# Altium schematic symbol library Interface.SchLib: 25 symbols
Pins are listed as number, name and electrical type; pins without a type are passive.

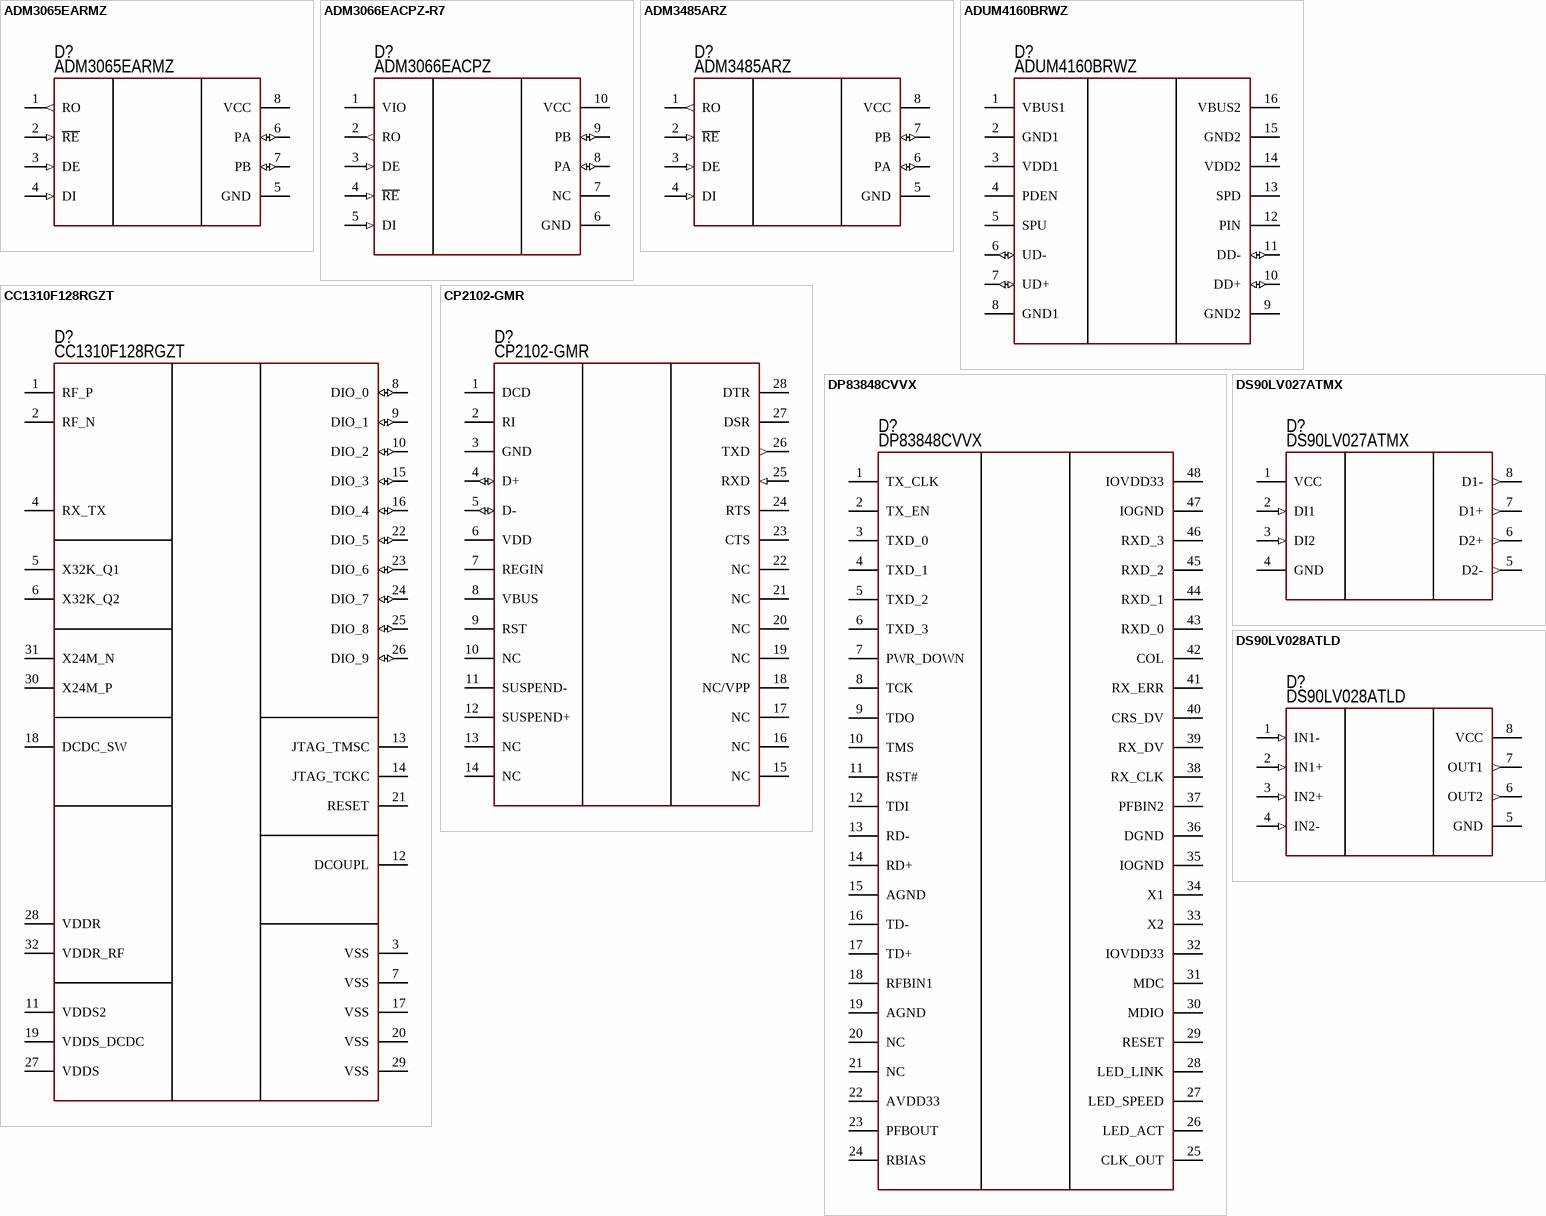
[diagram p0: symbols ADM3065EARMZ to DS90LV028ATLD]

## ADM3065EARMZ
designator D?
RS485; Manufacturer: Analog Devices Inc.; Model: ADM3065EARMZ; HelpURL: https://www.digikey.com/product-detail/en/analog-devices-inc/ADM3065EARMZ/ADM3065EARMZ-ND/7200816; ComponentKind: 8-MSOP
footprint 8-MSOP (NO PAD)
pins: 1 RO (out), 2 ~{RE} (in), 3 DE (in), 4 DI (in), 5 GND (power), 6 PA (io), 7 PB (io), 8 VCC (power)

## ADM3066EACPZ-R7
designator D?, comment ADM3066EACPZ
RS485; Manufacturer: Analog Devices Inc.; Model: ADM3066EACPZ-R7; HelpURL: https://www.digikey.com/products/en?keywords=ADM3066EACPZ-R7; ComponentKind: 10-LFCSP
footprint 10-LFCSP (3x3 mm) (QFN, 10-Leads, Body 3,00x3,00mm, Pitch 0,50mm, Thermal Pad 3,18x1,58mm, IPC Medium Density)
pins: 1 VIO (power), 2 RO (out), 3 DE (in), 4 ~{RE} (in), 5 DI (in), 6 GND (power), 7 NC, 8 PA (io), 9 PB (io), 10 VCC (power)

## ADM3485ARZ
designator D?
RS485; Manufacturer: Analog Devices Inc.; Model: ADM3485ARZ-REEL7; HelpURL: https://www.digikey.com/product-detail/en/analog-devices-inc/ADM3485ARZ-REEL7/ADM3485ARZ-REEL7CT-ND/3878705; ComponentKind: 8-SOIC
footprint 8-SOIC
pins: 1 RO (out), 2 ~{RE} (in), 3 DE (in), 4 DI (in), 5 GND (power), 6 PA (io), 7 PB (io), 8 VCC (power)

## ADUM4160BRWZ
designator D?
USB isolator; Manufacturer: Analog Devices Inc.; Model: ADUM4160BRWZ; ComponentKind: 16-SOIC; HelpURL: https://www.digikey.com/product-detail/en/analog-devices-inc/ADUM4160BRWZ/ADUM4160BRWZ-ND/2108218
footprint 16-SOIC (W)
pins: 1 VBUS1, 2 GND1, 3 VDD1, 4 PDEN, 5 SPU, 6 UD- (io), 7 UD+ (io), 8 GND1, 9 GND2, 10 DD+ (io), 11 DD- (io), 12 PIN, 13 SPD, 14 VDD2, 15 GND2, 16 VBUS2

## CC1310F128RGZT
designator D?
868MHz; Manufacturer: Texas Instruments; Model: CC1310F128RGZT; HelpURL: https://www.digikey.com/product-detail/en/texas-instruments/CC1310F128RGZT/296-42989-1-ND/5641860; ComponentKind: 32-VQFN
footprint 32-VQFN (5x5 mm) (QFN, 32-Leads, Body 5x5mm, Pitch 0.5mm, Thermal Pad 3.45x3.45mm, TI Recommended)
pins: 1 RF_P, 2 RF_N, 3 VSS, 4 RX_TX, 5 X32K_Q1, 6 X32K_Q2, 7 VSS, 8 DIO_0 (io), 9 DIO_1 (io), 10 DIO_2 (io), 11 VDDS2, 12 DCOUPL, 13 JTAG_TMSC, 14 JTAG_TCKC, 15 DIO_3 (io), 16 DIO_4 (io), 17 VSS, 18 DCDC_SW, 19 VDDS_DCDC, 20 VSS, 21 RESET, 22 DIO_5 (io), 23 DIO_6 (io), 24 DIO_7 (io), 25 DIO_8 (io), 26 DIO_9 (io), 27 VDDS, 28 VDDR, 29 VSS, 30 X24M_P, 31 X24M_N, 32 VDDR_RF

## CP2102-GMR
designator D?
USB-UART; Manufacturer: Silicon Labs; Model: CP2102-GMR; HelpURL: https://www.digikey.com/product-detail/en/silicon-labs/CP2102-GMR/336-1160-1-ND/3672615; ComponentKind: 28-QFN
footprint 28-QFN (5x5 mm), 0.5 mm (PQFN, 28-Leads, Body 5,00x5,00mm, Pitch 0,50mm, Thermal Pad 3,15x3,15mm, IPC Medium Density)
pins: 1 DCD, 2 RI, 3 GND, 4 D+ (io), 5 D- (io), 6 VDD, 7 REGIN, 8 VBUS, 9 RST, 10 NC, 11 SUSPEND-, 12 SUSPEND+, 13 NC, 14 NC, 15 NC, 16 NC, 17 NC, 18 NC/VPP, 19 NC, 20 NC, 21 NC, 22 NC, 23 CTS, 24 RTS, 25 RXD (in), 26 TXD (out), 27 DSR, 28 DTR

## DP83848CVVX
designator D?
PHY Ethernet; Manufacturer: Texas Instruments; Model: DP83848CVVX/NOPB; HelpURL: https://www.digikey.com/product-detail/en/texas-instruments/DP83848CVVX-NOPB/DP83848CVVX-NOPBCT-ND/3440156; ComponentKind: 48-LQFP
footprint 48-LQFP (QFP, 48-Leads, Body 7x7mm, Pitch 0.5mm, IPC Medium Density)
pins: 1 TX_CLK, 2 TX_EN, 3 TXD_0, 4 TXD_1, 5 TXD_2, 6 TXD_3, 7 PWR_DOWN, 8 TCK, 9 TDO, 10 TMS, 11 RST#, 12 TDI, 13 RD-, 14 RD+, 15 AGND, 16 TD-, 17 TD+, 18 RFBIN1, 19 AGND, 20 NC, 21 NC, 22 AVDD33, 23 PFBOUT, 24 RBIAS, 25 CLK_OUT, 26 LED_ACT, 27 LED_SPEED, 28 LED_LINK, 29 RESET, 30 MDIO, 31 MDC, 32 IOVDD33, 33 X2, 34 X1, 35 IOGND, 36 DGND, 37 PFBIN2, 38 RX_CLK, 39 RX_DV, 40 CRS_DV, 41 RX_ERR, 42 COL, 43 RXD_0, 44 RXD_1, 45 RXD_2, 46 RXD_3, 47 IOGND, 48 IOVDD33

## DS90LV027ATMX
designator D?
LVDS transiver; Manufacturer: Texas Instruments; Model: DS90LV027ATMX; HelpURL: https://www.digikey.com/product-detail/en/texas-instruments/DS90LV027ATMX-NOPB/296-35388-1-ND/3739092; ComponentKind: 8-SOIC
footprint 8-SOIC
pins: 1 VCC, 2 DI1 (in), 3 DI2 (in), 4 GND, 5 D2- (out), 6 D2+ (out), 7 D1+ (out), 8 D1- (out)

## DS90LV028ATLD
designator D?
LVDS receiver; Manufacturer: Texas Instruments; Model: DS90LV028ATLD/NOPB; HelpURL: https://www.digikey.com/product-detail/en/texas-instruments/DS90LV028ATLD-NOPB/DS90LV028ATLD-NOPBCT-ND/562328; ComponentKind: 8-WSON
footprint 8-WSON (4x4 mm)
pins: 1 IN1- (in), 2 IN1+ (in), 3 IN2+ (in), 4 IN2- (in), 5 GND (power), 6 OUT2 (out), 7 OUT1 (out), 8 VCC (power)

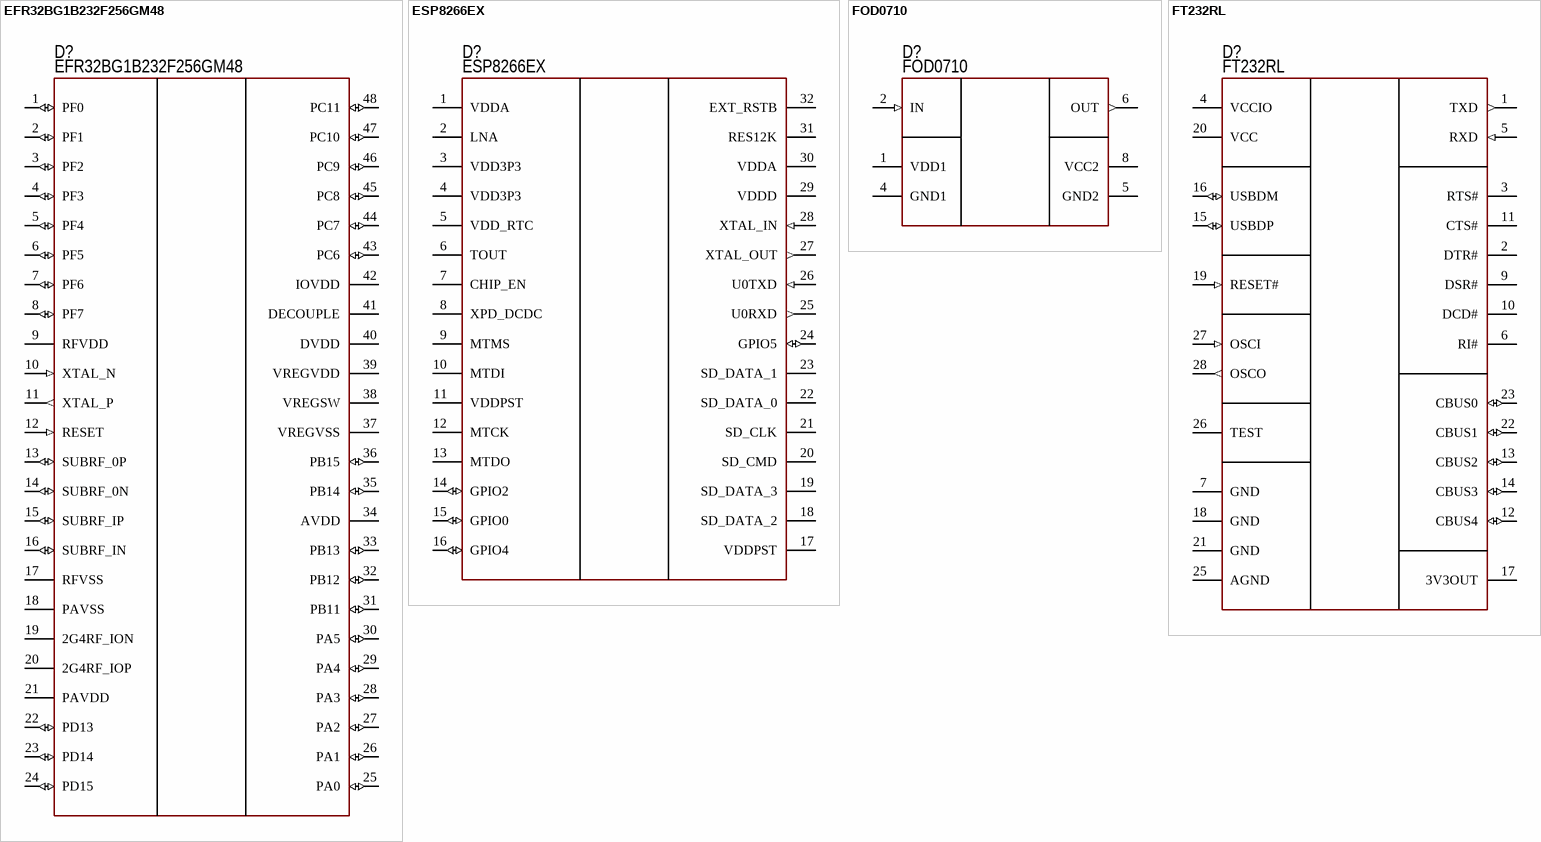
[diagram p1: symbols EFR32BG1B232F256GM48 to FT232RL]

## EFR32BG1B232F256GM48
designator D?
BLE+868MHz; Manufacturer: Silicon Labs; Model: EFR32BG1B232F256GM48-C0; HelpURL: https://www.digikey.com/product-detail/en/silicon-labs/EFR32BG1B232F256GM48-C0/336-3745-ND/6123008; ComponentKind: 48-QFN
footprint 48-QFN (7x7)
pins: 1 PF0 (io), 2 PF1 (io), 3 PF2 (io), 4 PF3 (io), 5 PF4 (io), 6 PF5 (io), 7 PF6 (io), 8 PF7 (io), 9 RFVDD, 10 XTAL_N (in), 11 XTAL_P (out), 12 RESET (in), 13 SUBRF_0P (io), 14 SUBRF_0N (io), 15 SUBRF_IP (io), 16 SUBRF_IN (io), 17 RFVSS, 18 PAVSS, 19 2G4RF_ION, 20 2G4RF_IOP, 21 PAVDD, 22 PD13 (io), 23 PD14 (io), 24 PD15 (io), 25 PA0 (io), 26 PA1 (io), 27 PA2 (io), 28 PA3 (io), 29 PA4 (io), 30 PA5 (io), 31 PB11 (io), 32 PB12 (io), 33 PB13 (io), 34 AVDD, 35 PB14 (io), 36 PB15 (io), 37 VREGVSS, 38 VREGSW, 39 VREGVDD, 40 DVDD, 41 DECOUPLE, 42 IOVDD, 43 PC6 (io), 44 PC7 (io), 45 PC8 (io), 46 PC9 (io), 47 PC10 (io), 48 PC11 (io)

## ESP8266EX
designator D?
Wi-Fi; Manufacturer: Espressif Systems; Model: ESP8266EX; ComponentKind: 32-VQFN; HelpURL: http://espressif.com/sites/default/files/documentation/0a-esp8266ex_datasheet_en.pdf
footprint 32-VQFN (5x5 mm) (QFN, 32-Leads, Body 5x5mm, Pitch 0.5mm, Thermal Pad 3.45x3.45mm, TI Recommended)
pins: 1 VDDA, 2 LNA, 3 VDD3P3, 4 VDD3P3, 5 VDD_RTC, 6 TOUT, 7 CHIP_EN, 8 XPD_DCDC, 9 MTMS, 10 MTDI, 11 VDDPST, 12 MTCK, 13 MTDO, 14 GPIO2 (io), 15 GPIO0 (io), 16 GPIO4 (io), 17 VDDPST, 18 SD_DATA_2, 19 SD_DATA_3, 20 SD_CMD, 21 SD_CLK, 22 SD_DATA_0, 23 SD_DATA_1, 24 GPIO5 (io), 25 U0RXD (out), 26 U0TXD (in), 27 XTAL_OUT (out), 28 XTAL_IN (in), 29 VDDD, 30 VDDA, 31 RES12K, 32 EXT_RSTB

## FOD0710
designator D?
Isolator; Manufacturer: ON Semiconductor; Model: FOD0710; HelpURL: https://ru.mouser.com/ProductDetail/ON-Semiconductor-Fairchild/FOD0710?qs=sGAEpiMZZMtd3yBnp8bAgDLgcgrrbeJwH6KJ8Lq%252bCLE%3d; ComponentKind: 8-SOIC
footprint 8-SOIC
pins: 1 VDD1 (power), 2 IN (in), 4 GND1 (power), 5 GND2 (power), 6 OUT (out), 8 VCC2 (power)

## FT232RL
designator D?
USB-UART; Manufacturer: FTDI, Future Technology Devices International Ltd; Model: FT232RL-REEL; HelpURL: https://www.digikey.com/product-detail/en/ftdi-future-technology-devices-international-ltd/FT232RL-REEL/768-1007-1-ND/1836402; ComponentKind: SSOP-28
footprint 28-SSOP
pins: 1 TXD (out), 2 DTR#, 3 RTS#, 4 VCCIO, 5 RXD (in), 6 RI#, 7 GND, 9 DSR#, 10 DCD#, 11 CTS#, 12 CBUS4 (io), 13 CBUS2 (io), 14 CBUS3 (io), 15 USBDP (io), 16 USBDM (io), 17 3V3OUT, 18 GND, 19 RESET# (in), 20 VCC, 21 GND, 22 CBUS1 (io), 23 CBUS0 (io), 25 AGND, 26 TEST, 27 OSCI (in), 28 OSCO (out)

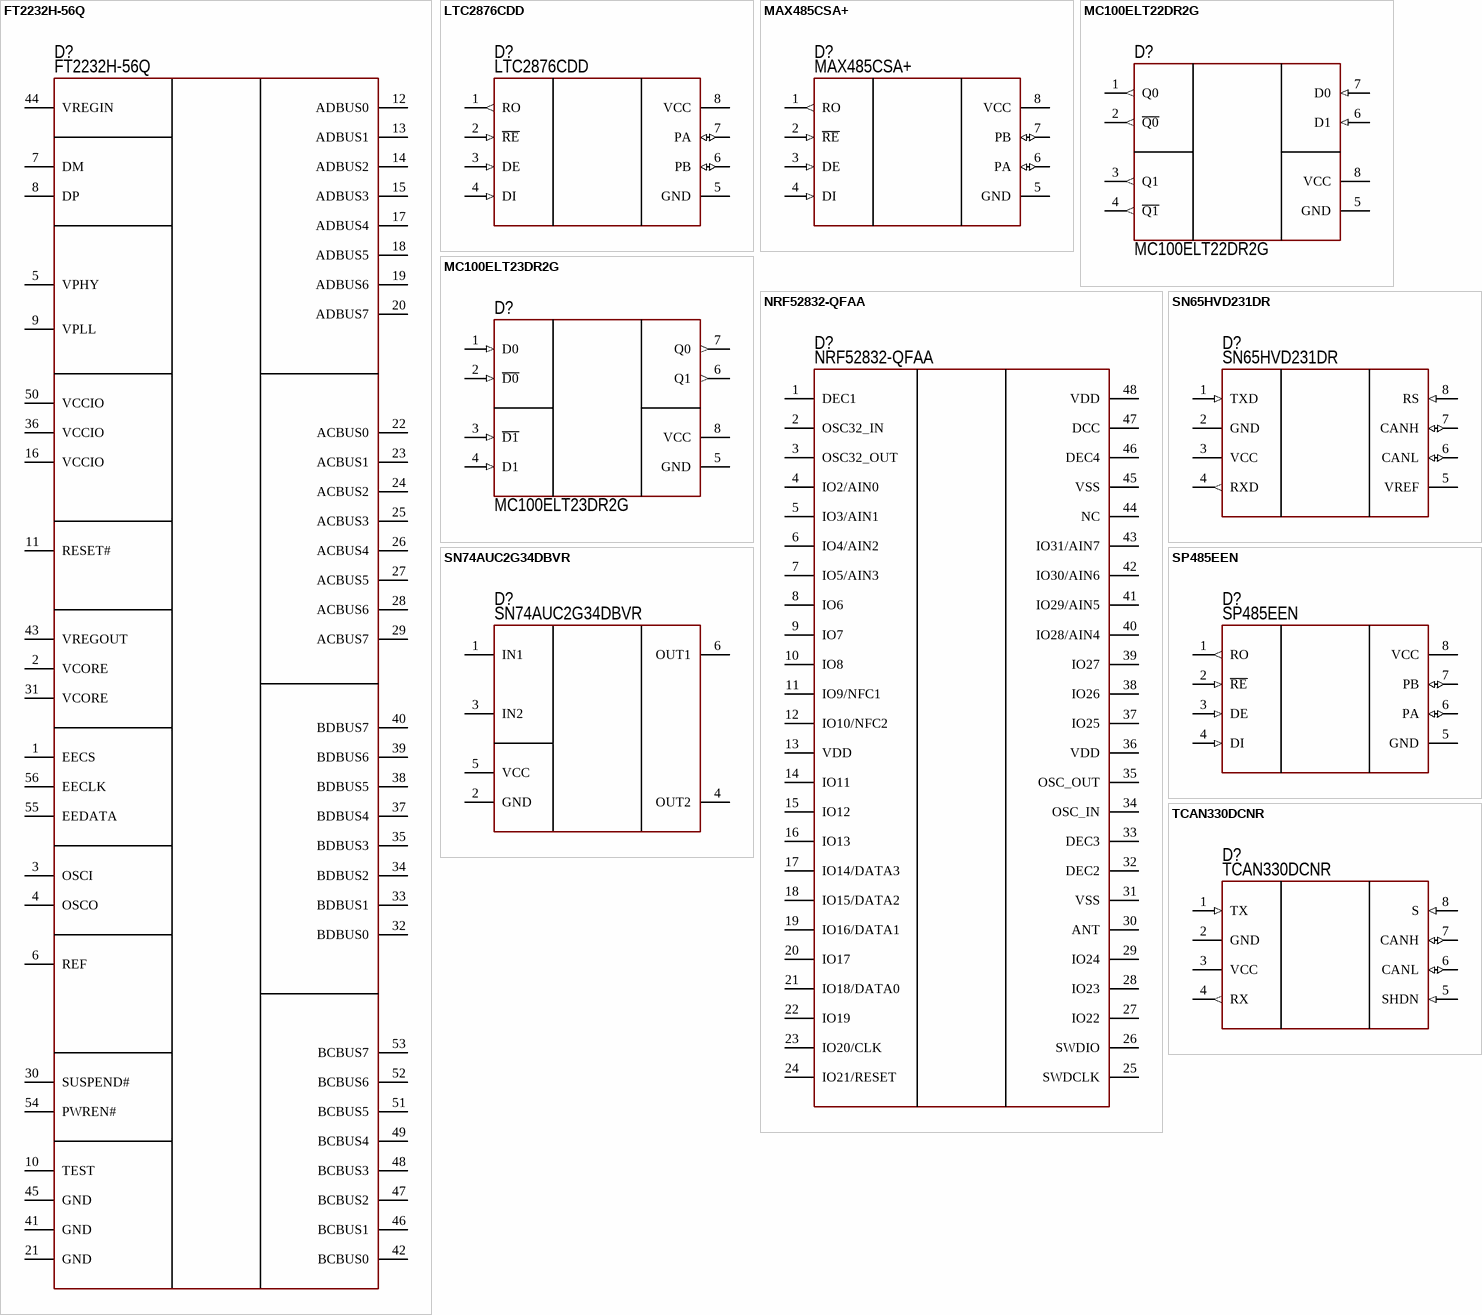
[diagram p2: symbols FT2232H-56Q to TCAN330DCNR]

## FT2232H-56Q
designator D?
USB-UART; Manufacturer: FTDI, Future Technology Devices International Ltd; Model: FT2232H-56Q-TRAY; HelpURL: https://www.digikey.com/product-detail/en/ftdi-future-technology-devices-international-ltd/FT2232H-56Q-TRAY/768-1276-ND/5994773; ComponentKind: 56-VQFN
footprint 56-VQFN (8x8)
pins: 1 EECS, 2 VCORE, 3 OSCI, 4 OSCO, 5 VPHY, 6 REF, 7 DM, 8 DP, 9 VPLL, 10 TEST, 11 RESET#, 12 ADBUS0, 13 ADBUS1, 14 ADBUS2, 15 ADBUS3, 16 VCCIO, 17 ADBUS4, 18 ADBUS5, 19 ADBUS6, 20 ADBUS7, 21 GND, 22 ACBUS0, 23 ACBUS1, 24 ACBUS2, 25 ACBUS3, 26 ACBUS4, 27 ACBUS5, 28 ACBUS6, 29 ACBUS7, 30 SUSPEND#, 31 VCORE, 32 BDBUS0, 33 BDBUS1, 34 BDBUS2, 35 BDBUS3, 36 VCCIO, 37 BDBUS4, 38 BDBUS5, 39 BDBUS6, 40 BDBUS7, 41 GND, 42 BCBUS0, 43 VREGOUT, 44 VREGIN, 45 GND, 46 BCBUS1, 47 BCBUS2, 48 BCBUS3, 49 BCBUS4, 50 VCCIO, 51 BCBUS5, 52 BCBUS6, 53 BCBUS7, 54 PWREN#, 55 EEDATA, 56 EECLK

## LTC2876CDD
designator D?
RS485; Manufacturer: Linear Technology; Model: LTC2876CDD#PBF; HelpURL: https://www.digikey.com/product-detail/en/linear-technology/LTC2876CDD-PBF/LTC2876CDD-PBF-ND/5970069; ComponentKind: 8-DFN
footprint 8-DFN (3x3 mm)
pins: 1 RO (out), 2 ~{RE} (in), 3 DE (in), 4 DI (in), 5 GND (power), 6 PB (io), 7 PA (io), 8 VCC (power)

## MAX485CSA+
designator D?
RS485; Manufacturer: Maxim Integrated; Model: MAX485CSA+; HelpURL: https://www.digikey.com/product-detail/en/maxim-integrated/MAX485CSA/MAX485CSA-ND/948027; ComponentKind: 8-SOIC
footprint 8-SOIC
pins: 1 RO (out), 2 ~{RE} (in), 3 DE (in), 4 DI (in), 5 GND (power), 6 PA (io), 7 PB (io), 8 VCC (power)

## MC100ELT22DR2G
designator D?
TTL-PECL; Manufacturer: ON Semiconductor; Model: MC100ELT22DR2G; HelpURL: https://ru.mouser.com/ProductDetail/ON-Semiconductor/MC100ELT22DR2G?qs=sGAEpiMZZMsty6Jaj0%252bBBvnsgRTe5FdSbfMnTcA2FrE%3d; ComponentKind: 8-SOIC
footprint 8-SOIC
pins: 1 Q0 (out), 2 ~{Q0} (out), 3 Q1 (out), 4 ~{Q1} (out), 5 GND (power), 6 D1 (in), 7 D0 (in), 8 VCC (power)

## MC100ELT23DR2G
designator D?
PECL-TTL; Manufacturer: ON Semiconductor; Model: MC100ELT23DR2G; HelpURL: https://ru.mouser.com/ProductDetail/ON-Semiconductor/MC100ELT23DR2G?qs=sGAEpiMZZMsty6Jaj0%252bBBvnsgRTe5FdSSx3BEMWB%2fxc%3d; ComponentKind: 8-SOIC
footprint 8-SOIC
pins: 1 D0 (in), 2 ~{D0} (in), 3 ~{D1} (in), 4 D1 (in), 5 GND (power), 6 Q1 (out), 7 Q0 (out), 8 VCC (power)

## NRF52832-QFAA
designator D?
Bluetooth v4.1; Manufacturer: Nordic Semiconductor ASA; Model: NRF52832-QFAA-R; HelpURL: https://www.digikey.com/product-detail/en/nordic-semiconductor-asa/NRF52832-QFAA-R/1490-1052-1-ND/5428660; ComponentKind: 48-QFN
footprint 48-QFN (6x6) (QFN, 48-Leads, Body 6,00x6,00mm, Pitch 0,40mm, Thermal Pad 4,50x4,50mm, IPC Medium Density)
pins: 1 DEC1, 2 OSC32_IN, 3 OSC32_OUT, 4 IO2/AIN0, 5 IO3/AIN1, 6 IO4/AIN2, 7 IO5/AIN3, 8 IO6, 9 IO7, 10 IO8, 11 IO9/NFC1, 12 IO10/NFC2, 13 VDD, 14 IO11, 15 IO12, 16 IO13, 17 IO14/DATA3, 18 IO15/DATA2, 19 IO16/DATA1, 20 IO17, 21 IO18/DATA0, 22 IO19, 23 IO20/CLK, 24 IO21/RESET, 25 SWDCLK, 26 SWDIO, 27 IO22, 28 IO23, 29 IO24, 30 ANT, 31 VSS, 32 DEC2, 33 DEC3, 34 OSC_IN, 35 OSC_OUT, 36 VDD, 37 IO25, 38 IO26, 39 IO27, 40 IO28/AIN4, 41 IO29/AIN5, 42 IO30/AIN6, 43 IO31/AIN7, 44 NC, 45 VSS, 46 DEC4, 47 DCC, 48 VDD

## SN65HVD231DR
designator D?
CAN; Manufacturer: Texas Instruments; Model: SN65HVD231DR; HelpURL: https://www.digikey.com/product-detail/en/texas-instruments/SN65HVD231DR/296-26343-1-ND/2254977; ComponentKind: 8-SOIC
footprint 8-SOIC
pins: 1 TXD (in), 2 GND, 3 VCC, 4 RXD (out), 5 VREF, 6 CANL (io), 7 CANH (io), 8 RS (in)

## SN74AUC2G34DBVR
designator D?
Buffer; Manufacturer: Texas Instruments; Model: SN74AUC2G34DBVR; HelpURL: https://www.digikey.com/product-detail/en/texas-instruments/SN74AUC2G34DBVR/296-17231-1-ND/670072; ComponentKind: SOT23-6
footprint SOT23-6 (SOT23, 6-Leads, Body 2,90x2,45mm, Pitch 0,95mm, IPC Medium Density)
pins: 1 IN1 (power), 2 GND (power), 3 IN2 (power), 4 OUT2 (power), 5 VCC (power), 6 OUT1 (power)

## SP485EEN
designator D?
RS485; Manufacturer: Exar Corporation; Model: SP485EEN-L/TR; HelpURL: https://www.digikey.com/product-detail/en/exar-corporation/SP485EEN-L-TR/1016-1827-1-ND/3586544; ComponentKind: 8-SOIC
footprint 8-SOIC
pins: 1 RO (out), 2 ~{RE} (in), 3 DE (in), 4 DI (in), 5 GND (power), 6 PA (io), 7 PB (io), 8 VCC (power)

## TCAN330DCNR
designator D?
CAN; Manufacturer: Texas Instruments; Model: TCAN330DCNR; HelpURL: https://www.digikey.com/product-detail/en/texas-instruments/TCAN330DCNR/296-46215-1-ND/7033390; ComponentKind: SOT23-8
footprint SOT23-8 (8-Lead Small Outline Transistor Package [SOT-23])
pins: 1 TX (in), 2 GND (power), 3 VCC (power), 4 RX (out), 5 SHDN (in), 6 CANL (io), 7 CANH (io), 8 S (in)

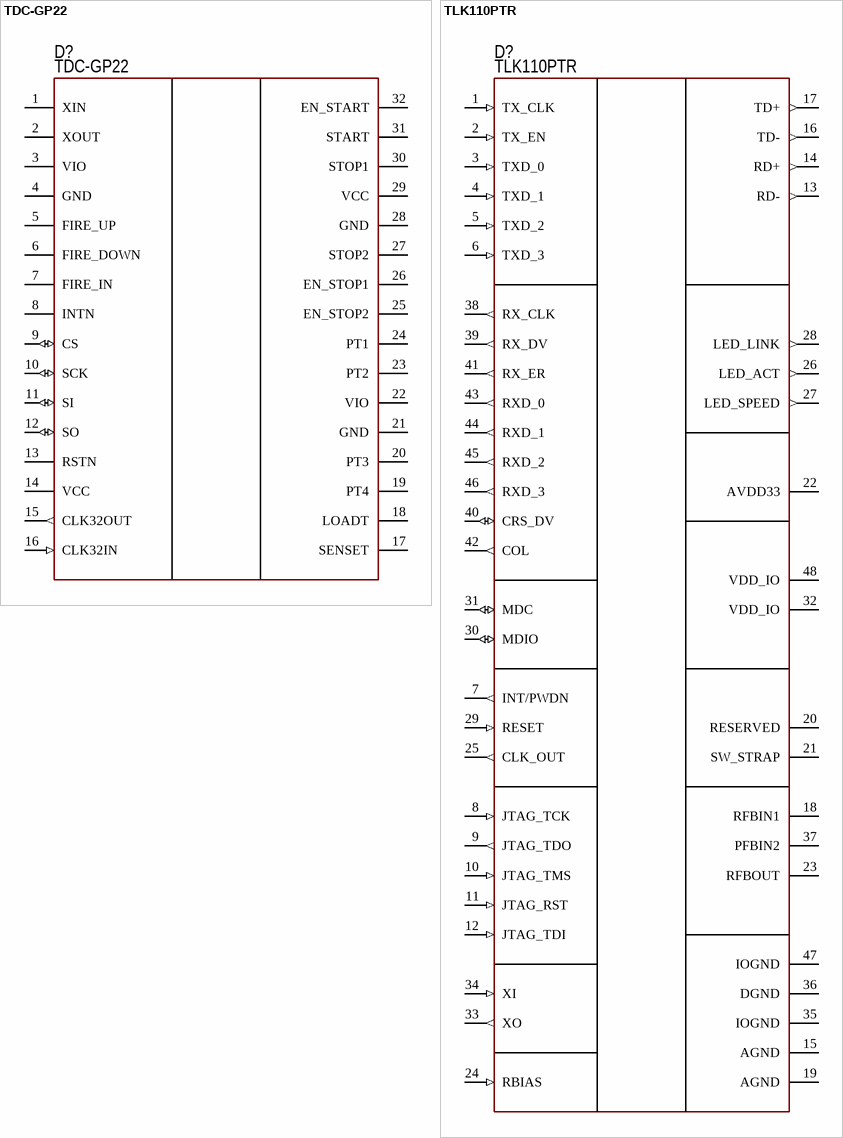
[diagram p3: symbols TDC-GP22 to TLK110PTR]

## TDC-GP22
designator D?
Ultrasonic; Manufacturer: AMS; Model: TDC-GP22 T&R; HelpURL: https://www.digikey.com/product-detail/en/ams/TDC-GP22-T-R/TDC-GP22CT-ND/5970104; ComponentKind: 32-VFQFN
footprint 32-VQFN (5x5 mm) (QFN, 32-Leads, Body 5x5mm, Pitch 0.5mm, Thermal Pad 3.45x3.45mm, TI Recommended)
pins: 1 XIN, 2 XOUT, 3 VIO, 4 GND, 5 FIRE_UP, 6 FIRE_DOWN, 7 FIRE_IN, 8 INTN, 9 CS (io), 10 SCK (io), 11 SI (io), 12 SO (io), 13 RSTN, 14 VCC, 15 CLK32OUT (out), 16 CLK32IN (in), 17 SENSET, 18 LOADT, 19 PT4, 20 PT3, 21 GND, 22 VIO, 23 PT2, 24 PT1, 25 EN_STOP2, 26 EN_STOP1, 27 STOP2, 28 GND, 29 VCC, 30 STOP1, 31 START, 32 EN_START

## TLK110PTR
designator D?
PHY Ethernet; Manufacturer: Texas Instruments; Model: TLK110PTR; HelpURL: https://www.digikey.com/product-detail/en/texas-instruments/TLK110PTR/296-30096-1-ND/2798835; ComponentKind: 48-LQFP
footprint 48-LQFP (QFP, 48-Leads, Body 7x7mm, Pitch 0.5mm, IPC Medium Density)
pins: 1 TX_CLK (in), 2 TX_EN (in), 3 TXD_0 (in), 4 TXD_1 (in), 5 TXD_2 (in), 6 TXD_3 (in), 7 INT/PWDN (out), 8 JTAG_TCK (in), 9 JTAG_TDO (out), 10 JTAG_TMS (in), 11 JTAG_RST (in), 12 JTAG_TDI (in), 13 RD- (out), 14 RD+ (out), 15 AGND (power), 16 TD- (out), 17 TD+ (out), 18 RFBIN1 (power), 19 AGND (power), 20 RESERVED, 21 SW_STRAP, 22 AVDD33 (power), 23 RFBOUT (power), 24 RBIAS (in), 25 CLK_OUT (out), 26 LED_ACT (out), 27 LED_SPEED (out), 28 LED_LINK (out), 29 RESET (in), 30 MDIO (io), 31 MDC (io), 32 VDD_IO (power), 33 XO (out), 34 XI (in), 35 IOGND (power), 36 DGND (power), 37 PFBIN2 (power), 38 RX_CLK (out), 39 RX_DV (out), 40 CRS_DV (io), 41 RX_ER (out), 42 COL (out), 43 RXD_0 (out), 44 RXD_1 (out), 45 RXD_2 (out), 46 RXD_3 (out), 47 IOGND (power), 48 VDD_IO (power)